# Altium schematic symbol library micro_sd.SchLib: 1 symbol
Pins are listed as number, name and electrical type; pins without a type are passive.

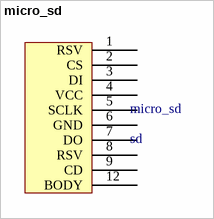
[diagram p0: symbol micro_sd]

## micro_sd
designator micro_sd, comment sd
pins: 1 RSV, 2 CS, 3 DI, 4 VCC, 5 SCLK, 6 GND, 7 DO, 8 RSV, 9 CD, 12 BODY